# EAGLE library part AT86RF215 (library df4iah_rf)
Microchip Technology AT86RF215 Sub-1GHz/2.4GHz Transceiver and I/Q Radio for IEEE Std 802.15.4TM-2015 IEEE Std 802.15.4gTM-2012 ETSI TS 102 887-1
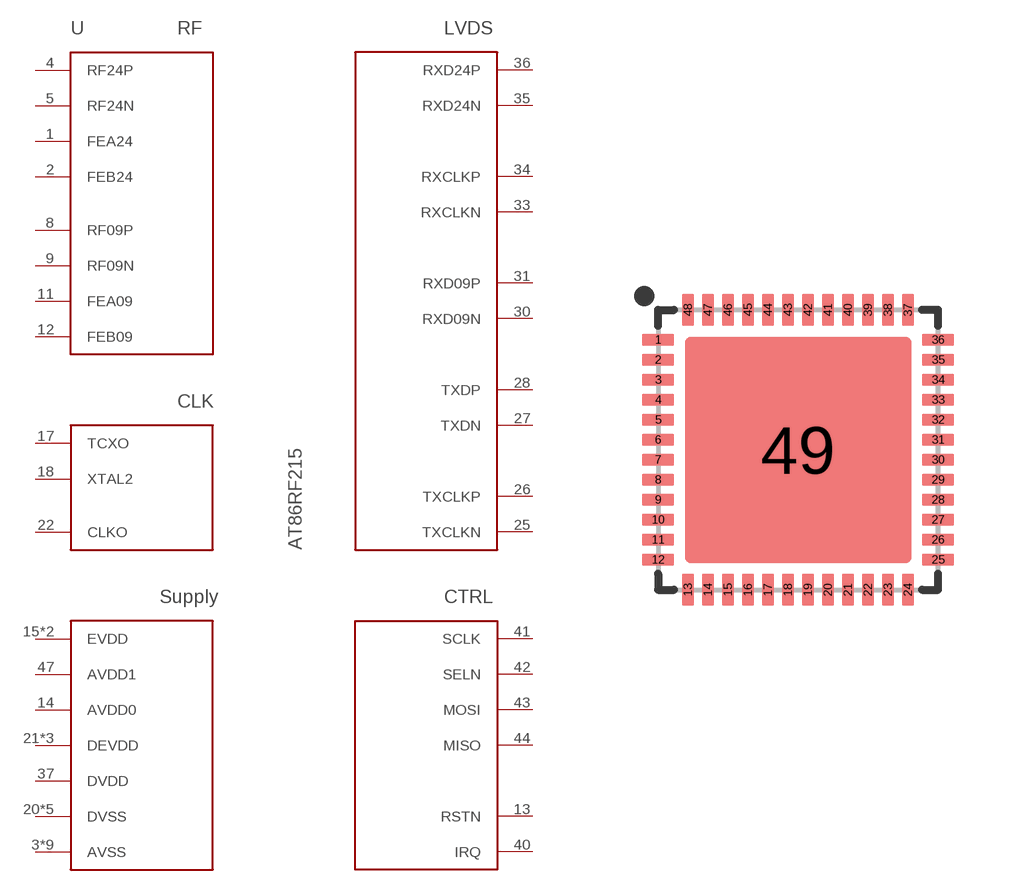
[diagram p7: symbol with the pads of QFN48_7X7-0P5-PAD; footprint QFN48_7X7-0P5-PAD]

Designator prefix U

## AT86RF215  [QFN48_7X7-0P5-PAD]
1  FEA24  out
2  FEB24  out
3  AVSS  pas
4  RF24P  pas
5  RF24N  pas
6  AVSS  pas
7  AVSS  pas
8  RF09P  pas
9  RF09N  pas
10  AVSS  pas
11  FEA09  out
12  FEB09  out
13  RSTN  in
14  AVDD0  pas
15  EVDD  pwr
16  AVSS  pas
17  TCXO  in
18  XTAL2  pas
19  AVSS  pas
20  DVSS  pas
21  DEVDD  pwr
22  CLKO  out
23  DVSS  pas
24  DVSS  pas
25  TXCLKN  in
26  TXCLKP  in
27  TXDN  in
28  TXDP  in
29  DEVDD  pwr
30  RXD09N  out
31  RXD09P  out
32  DVSS  pas
33  RXCLKN  out
34  RXCLKP  out
35  RXD24N  out
36  RXD24P  out
37  DVDD  pas
38  DVSS  pas
39  DEVDD  pwr
40  IRQ  out
41  SCLK  in
42  SELN  in
43  MOSI  in
44  MISO  out
45  AVSS  pas
46  EVDD  pwr
47  AVDD1  pas
48  AVSS  pas
49  AVSS  pas

## Footprint QFN48_7X7-0P5-PAD (pad centres in mm)
48-Pin QFN - 7.0 x 7.0 mm - 0.5P - with center pad
smd 0.8 x 0.3: 1 -3.5,2.75; 2 -3.5,2.25; 3 -3.5,1.75; 4 -3.5,1.25; 5 -3.5,0.75; 6 -3.5,0.25; 7 -3.5,-0.25; 8 -3.5,-0.75; 9 -3.5,-1.25; 10 -3.5,-1.75; 11 -3.5,-2.25; 12 -3.5,-2.75; 25 3.5,-2.75; 26 3.5,-2.25; 27 3.5,-1.75; 28 3.5,-1.25; 29 3.5,-0.75; 30 3.5,-0.25; 31 3.5,0.25; 32 3.5,0.75; 33 3.5,1.25; 34 3.5,1.75; 35 3.5,2.25; 36 3.5,2.75
smd 0.3 x 0.8: 13 -2.75,-3.5; 14 -2.25,-3.5; 15 -1.75,-3.5; 16 -1.25,-3.5; 17 -0.75,-3.5; 18 -0.25,-3.5; 19 0.25,-3.5; 20 0.75,-3.5; 21 1.25,-3.5; 22 1.75,-3.5; 23 2.25,-3.5; 24 2.75,-3.5; 37 2.75,3.5; 38 2.25,3.5; 39 1.75,3.5; 40 1.25,3.5; 41 0.75,3.5; 42 0.25,3.5; 43 -0.25,3.5; 44 -0.75,3.5; 45 -1.25,3.5; 46 -1.75,3.5; 47 -2.25,3.5; 48 -2.75,3.5
smd 5.65 x 5.65: 49 0,0